# EAGLE library part 7491192912 (library WE-POE)
WE-PoE Power over Ethernet Transformer Characteristics Flyback transformer designed for PoE PDs Input voltage: 36 V to 57 V Switching frequencies: 200–500 kHz Operating temperature: –40 ºC to +125 ºC Isolation voltage: 1.5 kVAC/1 min Different output powers and voltages available Applications PoE powered devices IP Phones WLAN Access Points Access control terminals Security cameras <https://www.we-online.com/components/media/o766301v209%20Family-POE.jpg> Details see: www.we-online.com/en/components/products/WE-POE <www.we-online.com/catalog/WE-POE/?utm_source=eagle_model&utm_medium=description_link&utm_campaign=eisos_eagle> Updated by Ella 2024-01-09 2024 (C) Wurth Elektronik
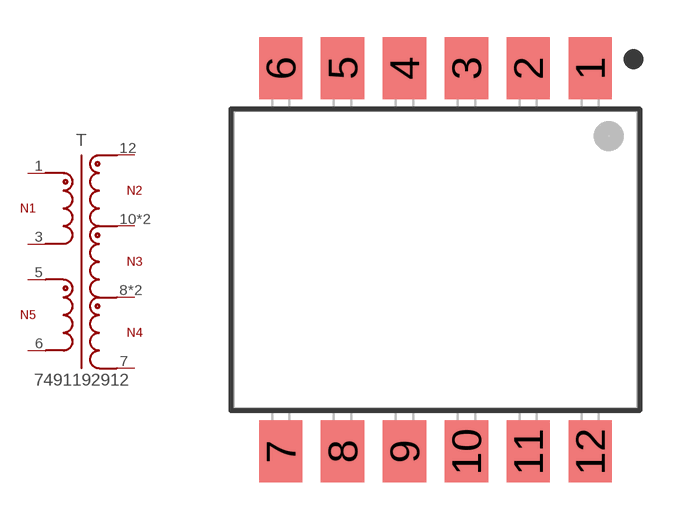
[diagram p20: symbol with the pads of WE-POE_ER14.5/6; footprint WE-POE_ER14.5/6]

Designator prefix T

## 7491192912 (DATASHEET-URL: https://www.we-online.com/redexpert/spec/7491192912?ae; IO1: 0.58A; IO2: 1.4A; IO3: 2.1A; L: 210uH; MOUNT: SMT; N: 12:1.5:1:3.5:5; PART-NUMBER: 7491192912; SIZE: ER14.5/6; VALUE: 7491192912; VERSION: Flyback; VIN: 36 - 57 V (DC); VO1: 12V; VO2: 5V; VO3: 3.3V; VT: 1500V(AC))  [WE-POE_ER14.5/6]
1  1  pas
3  3  pas
5  5  pas
6  6  pas
7  7  pas
8  8+9  pas
9  8+9  pas
10  10+11  pas
11  10+11  pas
12  12  pas

## Footprint WE-POE_ER14.5/6 (pad centres in mm)
WE-PoE Power over Ethernet Transformer ER14.5/6, SMT, 12Pins
smd 1.75 x 2.5: 1 6.25,7.75; 2 3.75,7.75; 3 1.25,7.75; 4 -1.25,7.75; 5 -3.75,7.75; 6 -6.25,7.75; 7 -6.25,-7.75; 8 -3.75,-7.75; 9 -1.25,-7.75; 10 1.25,-7.75; 11 3.75,-7.75; 12 6.25,-7.75